# EAGLE library part SN74HCS138DR (library pimoroni-ics)
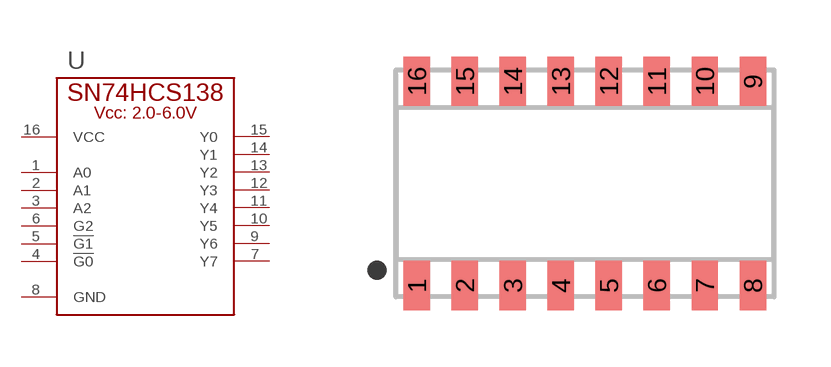
[diagram p169: symbol with the pads of SOP-16-1.27MM; footprint SOP-16-1.27MM]

Designator prefix U

## SN74HCS138DR  [SOP-16-1.27MM]
1  A0
2  A1
3  A2
4  !G0
5  !G1
6  G2
7  Y7
8  GND
9  Y6
10  Y5
11  Y4
12  Y3
13  Y2
14  Y1
15  Y0
16  VCC

## Footprint SOP-16-1.27MM (pad centres in mm)
smd 0.7 x 1.3: 1 -4.445,-2.7; 2 -3.175,-2.7; 3 -1.905,-2.7; 4 -0.635,-2.7; 5 0.635,-2.7; 6 1.905,-2.7; 7 3.175,-2.7; 8 4.445,-2.7; 9 4.445,2.7; 10 3.175,2.7; 11 1.905,2.7; 12 0.635,2.7; 13 -0.635,2.7; 14 -1.905,2.7; 15 -3.175,2.7; 16 -4.445,2.7